# Altium schematic symbol library CSI_Display.SchLib: 17 symbols
Pins are listed as number, name and electrical type; pins without a type are passive.

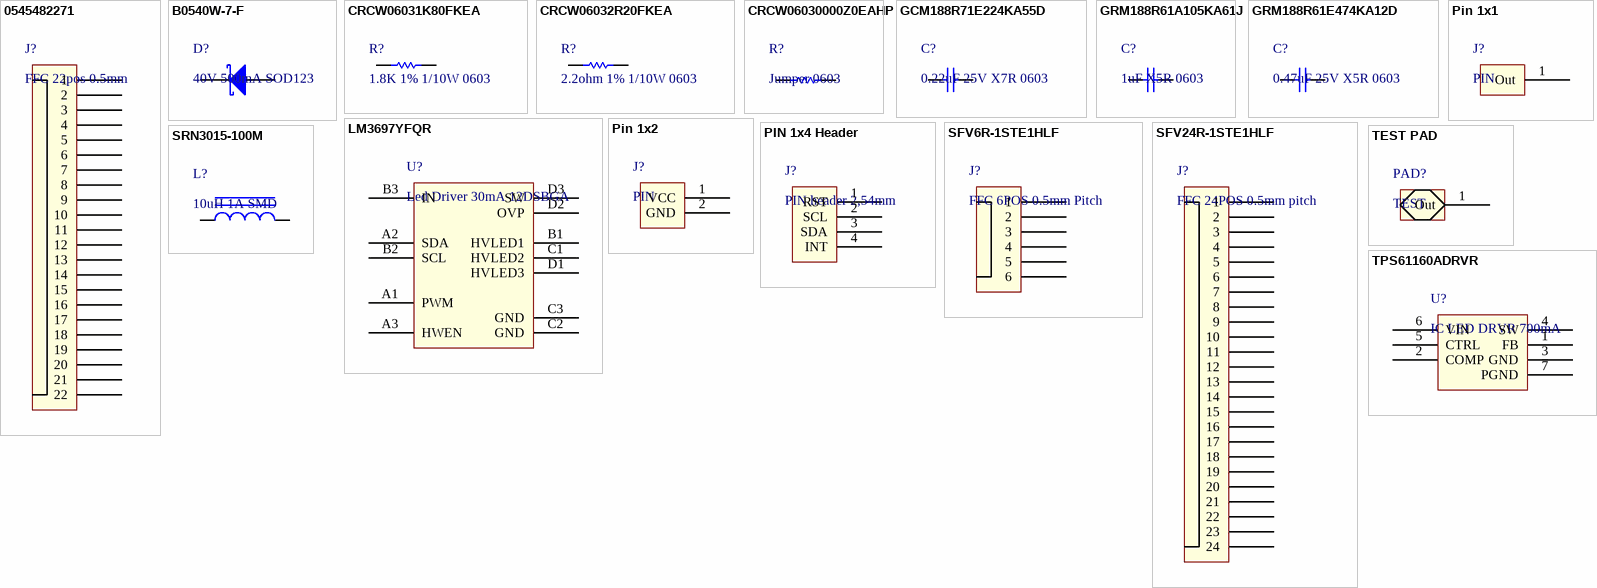
[diagram p0: symbols 0545482271 to TPS61160ADRVR]

## 0545482271
designator J?, comment FFC 22pos 0.5mm
CONN FFC BOTTOM 22POS 0.50MM R/A; Manufacturer: Molex, LLC; Manufacturer Part Number: 0545482271; Flat Flex Type: FFC, FPC; Connector/Contact Type: Contacts, Bottom; Number of Positions: 22; Pitch: 0.020" (0.50mm); FFC, FCB Thickness: 0.30mm; Locking Feature: Flip Lock; Cable End Type: Straight, Tapered; Actuator Material: Polyphenylene Sulfide (PPS); Voltage Rating: 50V; Material Flammability Rating: UL94 V-0; Current Rating: 0.5A; Mating Cycles: 20; Supplier 1: Digi-Key; RoHS: RoHS Compliant; Category: Connectors, Interconnects; Stock 1: 5397; Pricing 1: 1=2.3, 10=2.204, 25=2.0204, 50=1.9288, 100=1.837, 250=1.60736, 500=1.56144, 1000=1.33181 (EUR); Packaging: Cut Tape (CT); Part Status: Active; Mounting Type: Surface Mount, Right Angle; Termination: Solder; Height Above Board: 0.047" (1.20mm); Contact Material: Phosphor Bronze; Contact Finish: Gold; Housing Material: Liquid Crystal Polymer (LCP); Features: Solder Retention, Zero Insertion Force (ZIF); Operating Temperature: -20°C ~ 85°C; Contact Finish Thickness: -; Housing Color: -; Actuator Color: -; ComponentLink1URL: https://www.molex.com/pdm_docs/sd/545482671_sd.pdf; ComponentLink1Description: https://www.molex.com/pdm_docs/sd/545482671_sd.pdf; Supplier Part Number 1: WM8828CT-ND
footprint FFC 22pin 0.5PITCH
pins: 1, 2, 3, 4, 5, 6, 7, 8, 9, 10, 11, 12, 13, 14, 15, 16, 17, 18, 19, 20, 21, 22

## B0540W-7-F
designator D?, comment 40V 500mA SOD123
DIODE SCHOTTKY 40V 500MA SOD123; Manufacturer: Diodes Incorporated; Manufacturer Part Number: B0540W-7-F; Speed: Fast Recovery =< 500ns, > 200mA (Io); Capacitance @ Vr, F: 170pF @ 0V, 1MHz; Supplier 1: Digi-Key; RoHS: RoHS Compliant; Category: Discrete Semiconductor Products; Stock 1: 299180; Pricing 1: 1=0.32, 10=0.267, 100=0.1415, 500=0.09308, 1000=0.0633 (EUR); Packaging: Cut Tape (CT); Part Status: Active; Diode Type: Schottky; Current - Average Rectified (Io): 500mA; Mounting Type: Surface Mount; Package / Case: SOD-123; Supplier Device Package: SOD-123; Operating Temperature - Junction: -65°C ~ 150°C; Base Part Number: B0540; ComponentLink1URL: https://www.diodes.com/assets/Datasheets/ds30138.pdf; ComponentLink1Description: https://www.diodes.com/assets/Datasheets/ds30138.pdf; Supplier Part Number 1: B0540W-FDICT-ND
footprint SOD-123
pins: 1 K, 2 A

## CRCW06031K80FKEA
designator R?, comment 1.8K 1% 1/10W 0603
RES SMD 1.8K OHM 1% 1/10W 0603; Manufacturer: Vishay Dale; Manufacturer Part Number: CRCW06031K80FKEA; Power (Watts): 0.1W, 1/10W; Temperature Coefficient: ±100ppm/°C; Supplier 1: Digi-Key; RoHS: RoHS Compliant; Category: Resistors; Stock 1: 45492; Pricing 1: 1=0.08, 10=0.034, 100=0.0137, 1000=0.00616, 2500=0.00534 (EUR); Packaging: Cut Tape (CT); Part Status: Active; Tolerance: ±1%; Composition: Thick Film; Features: Automotive AEC-Q200; Operating Temperature: -55°C ~ 155°C; Package / Case: 0603 (1608 Metric); Supplier Device Package: 0603; Size / Dimension: 0.063" L x 0.033" W (1.60mm x 0.85mm); Height - Seated (Max): 0.020" (0.50mm); Failure Rate: -; ComponentLink1URL: http://www.vishay.com/docs/20035/dcrcwe3.pdf; ComponentLink1Description: http://www.vishay.com/docs/20035/dcrcwe3.pdf; Supplier Part Number 1: 541-1.80KHCT-ND
footprint R 0603/1608
pins: 1, 2

## CRCW06032R20FKEA
designator R?, comment 2.2ohm 1% 1/10W 0603
RES SMD 2.2 OHM 1% 1/10W 0603; Manufacturer: Vishay Dale; Manufacturer Part Number: CRCW06032R20FKEA; Power (Watts): 0.1W, 1/10W; Temperature Coefficient: ±100ppm/°C; Supplier 1: Digi-Key; RoHS: RoHS Compliant; Category: Resistors; Stock 1: 2055; Pricing 1: 1=0.08, 10=0.034, 100=0.0137, 1000=0.00616, 2500=0.00534 (EUR); Packaging: Cut Tape (CT); Part Status: Active; Tolerance: ±1%; Composition: Thick Film; Features: Automotive AEC-Q200; Operating Temperature: -55°C ~ 155°C; Package / Case: 0603 (1608 Metric); Supplier Device Package: 0603; Size / Dimension: 0.063" L x 0.033" W (1.60mm x 0.85mm); Height - Seated (Max): 0.020" (0.50mm); Failure Rate: -; ComponentLink1URL: http://www.vishay.com/docs/20035/dcrcwe3.pdf; ComponentLink1Description: http://www.vishay.com/docs/20035/dcrcwe3.pdf; Supplier Part Number 1: 541-2.20HHCT-ND
footprint R 0603/1608
pins: 1, 2

## CRCW06030000Z0EAHP
designator R?, comment Jumper 0603
RES SMD 0 OHM JUMPER 1/4W 0603; Manufacturer: Vishay Dale; Manufacturer Part Number: CRCW06030000Z0EAHP; Power (Watts): 0.25W, 1/4W; Supplier 1: Digi-Key; RoHS: RoHS Compliant; Category: Resistors; Stock 1: 21951; Pricing 1: 1=0.14, 10=0.114, 25=0.0836, 50=0.0604, 100=0.0449, 250=0.03444, 500=0.02712, 1000=0.01878 (EUR); Packaging: Cut Tape (CT); Part Status: Active; Tolerance: Jumper; Composition: Thick Film; Features: Automotive AEC-Q200, Pulse Withstanding; Temperature Coefficient: -; Operating Temperature: -55°C ~ 155°C; Package / Case: 0603 (1608 Metric); Supplier Device Package: 0603; Size / Dimension: 0.063" L x 0.033" W (1.60mm x 0.85mm); Height - Seated (Max): 0.022" (0.55mm); Failure Rate: -; ComponentLink1URL: http://www.vishay.com/docs/20043/crcwhpe3.pdf; ComponentLink1Description: http://www.vishay.com/docs/20043/crcwhpe3.pdf; Supplier Part Number 1: 541-0.0SBCT-ND
footprint R 0603/1608
pins: 1, 2

## GCM188R71E224KA55D
designator C?, comment 0.22uF 25V X7R 0603
CAP CER 0.22UF 25V X7R 0603; Manufacturer: Murata Electronics North America; Manufacturer Part Number: GCM188R71E224KA55D; Tolerance: ±10%; Supplier 1: Digi-Key; RoHS: RoHS Compliant; Category: Capacitors; Stock 1: 3280582; Pricing 1: 1=0.08, 10=0.061, 100=0.0275, 500=0.01962, 1000=0.01541 (EUR); Packaging: Cut Tape (CT); Part Status: Active; Voltage - Rated: 25V; Temperature Coefficient: X7R; Operating Temperature: -55°C ~ 125°C; Features: -; Ratings: AEC-Q200; Applications: Automotive; Mounting Type: Surface Mount, MLCC; Package / Case: 0603 (1608 Metric); Size / Dimension: 0.063" L x 0.032" W (1.60mm x 0.80mm); Height - Seated (Max): -; Thickness (Max): 0.035" (0.90mm); Lead Spacing: -; Lead Style: -; ComponentLink1URL: https://www.murata.com/~/media/webrenewal/support/library/catalog/products/capacitor/mlcc/c03e.ashx; ComponentLink1Description: https://www.murata.com/~/media/webrenewal/support/library/catalog/products/capacitor/mlcc/c03e.ashx; Supplier Part Number 1: 490-4935-1-ND
footprint C 0603/1608
pins: 1, 2

## GRM188R61A105KA61J
designator C?, comment 1uF X5R 0603
CAP CER 1UF 10V X5R 0603; Manufacturer: Murata Electronics North America; Manufacturer Part Number: GRM188R61A105KA61J; Tolerance: ±10%; Notification: Current market demand for these product types have resulted in fluctuating and extending lead times. Lead times may differ.; Supplier 1: Digi-Key; RoHS: RoHS Compliant; Category: Capacitors; Stock 1: 179; Pricing 1: 1=0.1, 10=0.079, 100=0.0352, 500=0.02514, 1000=0.01975, 2500=0.01796, 5000=0.01652 (EUR); Packaging: Cut Tape (CT); Part Status: Active; Voltage - Rated: 10V; Temperature Coefficient: X5R; Operating Temperature: -55°C ~ 85°C; Features: -; Ratings: -; Applications: General Purpose; Mounting Type: Surface Mount, MLCC; Package / Case: 0603 (1608 Metric); Size / Dimension: 0.063" L x 0.032" W (1.60mm x 0.80mm); Height - Seated (Max): -; Thickness (Max): 0.035" (0.90mm); Lead Spacing: -; Lead Style: -; ComponentLink1URL: https://www.murata.com/~/media/webrenewal/support/library/catalog/products/capacitor/mlcc/c02e.ashx; ComponentLink1Description: https://www.murata.com/~/media/webrenewal/support/library/catalog/products/capacitor/mlcc/c02e.ashx; Supplier Part Number 1: 490-6408-1-ND
footprint C 0603/1608
pins: 1, 2

## GRM188R61E474KA12D
designator C?, comment 0.47uF 25V X5R 0603
CAP CER 0.47UF 25V X5R 0603; Manufacturer: Murata Electronics North America; Manufacturer Part Number: GRM188R61E474KA12D; Tolerance: ±10%; Notification: Current market demand for these product types have resulted in fluctuating and extending lead times. Lead times may differ.; Supplier 1: Digi-Key; RoHS: RoHS Compliant; Category: Capacitors; Stock 1: 0; Pricing 1: 1=0.21, 10=0.141, 100=0.0713, 500=0.04878, 1000=0.04316 (EUR); Packaging: Cut Tape (CT); Part Status: Active; Voltage - Rated: 25V; Temperature Coefficient: X5R; Operating Temperature: -55°C ~ 85°C; Features: -; Ratings: -; Applications: General Purpose; Mounting Type: Surface Mount, MLCC; Package / Case: 0603 (1608 Metric); Size / Dimension: 0.063" L x 0.032" W (1.60mm x 0.80mm); Height - Seated (Max): -; Thickness (Max): 0.035" (0.90mm); Lead Spacing: -; Lead Style: -; ComponentLink1URL: https://www.murata.com/~/media/webrenewal/support/library/catalog/products/capacitor/mlcc/c02e.ashx; ComponentLink1Description: https://www.murata.com/~/media/webrenewal/support/library/catalog/products/capacitor/mlcc/c02e.ashx; Supplier Part Number 1: 490-9728-1-ND
footprint C 0603/1608
pins: 1, 2

## LM3697YFQR
designator U?, comment Led Driver 30mA 12DSBGA
IC LED DRIVER RGLTR 30MA 12DSBGA; Manufacturer: Texas Instruments; Manufacturer Part Number: LM3697YFQR; Topology: Step-Up (Boost); Internal Switch(s): Yes; Number of Outputs: 3; Voltage - Supply (Min): 2.7V; Voltage - Supply (Max): 5.5V; Voltage - Output: 40V; Frequency: 500kHz, 1MHz; Supplier 1: Digi-Key; RoHS: RoHS Compliant; Category: Integrated Circuits (ICs); Stock 1: 2170; Pricing 1: 1=0.82, 10=0.733, 100=0.5708, 500=0.47156, 1000=0.37229 (EUR); Packaging: Cut Tape (CT); Part Status: Active; Type: DC DC Regulator; Current - Output / Channel: 30mA; Dimming: -; Applications: Backlight; Operating Temperature: -40°C ~ 85°C (TA); Mounting Type: Surface Mount; Package / Case: 12-UFBGA, DSBGA; Supplier Device Package: 12-DSBGA; ComponentLink1URL: http://www.ti.com/lit/ds/symlink/lm3697.pdf; ComponentLink1Description: http://www.ti.com/lit/ds/symlink/lm3697.pdf; Supplier Part Number 1: 296-37199-1-ND
footprint 12-DSBGA 0.4mm pitch (BGA, 12-Leads, Body 1,26x1,61mmx0,60mm, Pitch 0,40mm)
pins: A1 PWM, A2 SDA, A3 HWEN, B1 HVLED1, B2 SCL, B3 IN, C1 HVLED2, C2 GND, C3 GND, D1 HVLED3, D2 OVP, D3 SW

## Pin 1x1
designator J?, comment PIN
footprint Header 1x1
pins: 1 Out

## Pin 1x2
designator J?, comment PIN
Pin Header 1x2 2.54
footprint Header 1x2 (2.54mm)
pins: 1 VCC, 2 GND

## PIN 1x4 Header
designator J?, comment PIN header 2,54mm
Pin Header 2.54 mm
footprint Header 4x1 (2.54mm)
pins: 1 RST, 2 SCL, 3 SDA, 4 INT

## SFV6R-1STE1HLF
designator J?, comment FFC 6POS 0.5mm Pitch
CONN FFC BOTTOM 6POS 0.50MM R/A; Manufacturer: Amphenol FCI; Manufacturer Part Number: SFV6R-1STE1HLF; Flat Flex Type: FFC, FPC; Connector/Contact Type: Contacts, Bottom; Number of Positions: 6; Pitch: 0.020" (0.50mm); FFC, FCB Thickness: 0.30mm, 0.33mm; Locking Feature: Slide Lock; Cable End Type: Straight, Tapered; Actuator Material: Polyphenylene Sulfide (PPS), Glass Filled, Halogen Free; Voltage Rating: 50V; Material Flammability Rating: UL94 V-0; Current Rating: 0.5A; Actuator Color: Black; Mating Cycles: 20; Supplier 1: Digi-Key; RoHS: RoHS Compliant; Category: Connectors, Interconnects; Stock 1: 16400; Pricing 1: 1=0.62, 10=0.549, 25=0.5164, 50=0.4948, 100=0.4733, 250=0.43032, 500=0.38726, 1000=0.34424 (EUR); Packaging: Cut Tape (CT); Part Status: Active; Mounting Type: Surface Mount, Right Angle; Termination: Solder; Height Above Board: 0.071" (1.80mm); Contact Material: Phosphor Bronze; Contact Finish: Tin; Housing Material: Polyamide (PA), Nylon, Glass Filled, Halogen Free; Features: Solder Retention, Zero Insertion Force (ZIF); Operating Temperature: -55°C ~ 105°C; Contact Finish Thickness: -; Housing Color: Black; ComponentLink1URL: https://cdn.amphenol-icc.com/media/wysiwyg/files/drawing/10112793.pdf; ComponentLink1Description: https://cdn.amphenol-icc.com/media/wysiwyg/files/drawing/10112793.pdf; Supplier Part Number 1: 609-4332-1-ND
footprint FFC 6pin 0.5PITCH - duplicate
pins: 1, 2, 3, 4, 5, 6

## SFV24R-1STE1HLF
designator J?, comment FFC 24POS 0.5mm pitch
CONN FFC BOTTOM 24POS 0.50MM R/A; Manufacturer: Amphenol FCI; Manufacturer Part Number: SFV24R-1STE1HLF; Flat Flex Type: FFC, FPC; Connector/Contact Type: Contacts, Bottom; Number of Positions: 24; Pitch: 0.020" (0.50mm); FFC, FCB Thickness: 0.30mm, 0.33mm; Locking Feature: Slide Lock; Cable End Type: Straight, Tapered; Actuator Material: Polyphenylene Sulfide (PPS), Glass Filled, Halogen Free; Voltage Rating: 50V; Material Flammability Rating: UL94 V-0; Current Rating: 0.5A; Actuator Color: Black; Mating Cycles: 20; Supplier 1: Digi-Key; RoHS: RoHS Compliant; Category: Connectors, Interconnects; Stock 1: 11039; Pricing 1: 1=0.65, 10=0.577, 25=0.5428, 50=0.5202, 100=0.4977, 250=0.45248, 500=0.40722, 1000=0.36197 (EUR); Packaging: Cut Tape (CT); Part Status: Active; Mounting Type: Surface Mount, Right Angle; Termination: Solder; Height Above Board: 0.071" (1.80mm); Contact Material: Phosphor Bronze; Contact Finish: Tin; Housing Material: Liquid Crystal Polymer (LCP), Glass Filled, Halogen Free; Features: Solder Retention, Zero Insertion Force (ZIF); Operating Temperature: -55°C ~ 105°C; Contact Finish Thickness: -; Housing Color: Black; ComponentLink1URL: https://cdn.amphenol-icc.com/media/wysiwyg/files/drawing/10112793.pdf; ComponentLink1Description: https://cdn.amphenol-icc.com/media/wysiwyg/files/drawing/10112793.pdf; Supplier Part Number 1: 609-4320-1-ND
footprint FFC 24pin 0.5pitch
pins: 1, 2, 3, 4, 5, 6, 7, 8, 9, 10, 11, 12, 13, 14, 15, 16, 17, 18, 19, 20, 21, 22, 23, 24

## SRN3015-100M
designator L?, comment 10uH 1A SMD
FIXED IND 10UH 1A 276 MOHM SMD; Manufacturer: Bourns Inc.; Manufacturer Part Number: SRN3015-100M; Type: Wirewound; Material - Core: Ferrite; Tolerance: ±20%; Shielding: Semi-Shielded; DC Resistance (DCR): 276 mOhm Max; Q @ Freq: 10 @ 2.52MHz; Supplier 1: Digi-Key; RoHS: RoHS Compliant; Category: Inductors, Coils, Chokes; Stock 1: 696; Pricing 1: 1=0.33, 10=0.292, 100=0.2086, 500=0.17518, 1000=0.1418 (EUR); Packaging: Cut Tape (CT); Part Status: Active; Ratings: -; Operating Temperature: -40°C ~ 125°C; Mounting Type: Surface Mount; Package / Case: Nonstandard; Supplier Device Package: -; Size / Dimension: 0.118" L x 0.118" W (3.00mm x 3.00mm); Height - Seated (Max): 0.059" (1.50mm); ComponentLink1URL: http://www.bourns.com/docs/Product-Datasheets/SRN3015.pdf; ComponentLink1Description: http://www.bourns.com/docs/Product-Datasheets/SRN3015.pdf; Supplier Part Number 1: SRN3015-100MCT-ND
footprint SRN3015-100M
pins: 1, 2

## TEST PAD
designator PAD?, comment TEST
TEST PAD 1.5MM ROUND
footprint 1.5mm testpoint
pins: 1 Out

## TPS61160ADRVR
designator U?, comment IC LED DRVR 700mA
IC LED DRVR RGLTR DIM 700MA 6SON; Manufacturer: Texas Instruments; Manufacturer Part Number: TPS61160ADRVR; Topology: Step-Up (Boost); Internal Switch(s): Yes; Number of Outputs: 1; Voltage - Supply (Min): 2.7V; Voltage - Supply (Max): 18V; Voltage - Output: 26V; Current - Output / Channel: 700mA (Switch); Frequency: 600kHz; Dimming: PWM; Supplier 1: Digi-Key; RoHS: RoHS Compliant; Category: Integrated Circuits (ICs); Stock 1: 403; Pricing 1: 1=1.03, 10=0.926, 100=0.7217, 500=0.59616, 1000=0.47065 (EUR); Packaging: Cut Tape (CT); Part Status: Active; Type: DC DC Regulator; Applications: Backlight; Operating Temperature: -40°C ~ 85°C (TA); Mounting Type: Surface Mount; Package / Case: 6-WDFN Exposed Pad; Supplier Device Package: 6-SON (2x2); Base Part Number: TPS61160A; ComponentLink1URL: http://www.ti.com/lit/ds/symlink/tps61160a.pdf; ComponentLink1Description: http://www.ti.com/lit/ds/symlink/tps61160a.pdf; Supplier Part Number 1: 296-24308-1-ND
footprint WSON-6 6-SON(2x2)
pins: 1 FB, 2 COMP, 3 GND, 4 SW, 5 CTRL, 6 VIN, 7 PGND